# EAGLE library part 87758-1416 (library con-molex-models)
14 Pin - 2mm Dual Row Single Wafer, Vertical T/H HDR Source: http://www.molex.com/pdm_docs/sd/877580616_sd.pdf
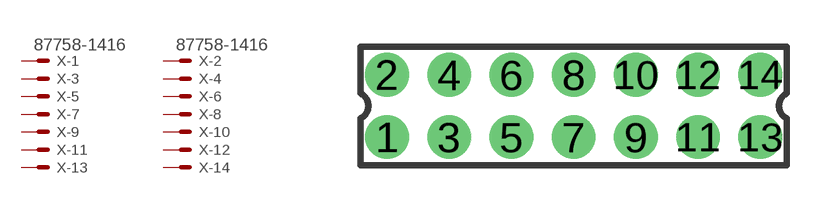
[diagram p210: symbol with the pads of 87758-1416; footprint 87758-1416]

Designator prefix X; gates -1=MV -2=MV -3=M -4=M -5=M -6=M -7=M -8=M -9=M -10=M -11=M -12=M -13=M -14=M

## 87758-1416 (MF: MOLEX; MPN: 87758-1416; OC_FARNELL: 7472358; OC_NEWARK: 59J1562)  [87758-1416]
1  -1:S  pas
2  -2:S  pas
3  -3:S  pas
4  -4:S  pas
5  -5:S  pas
6  -6:S  pas
7  -7:S  pas
8  -8:S  pas
9  -9:S  pas
10  -10:S  pas
11  -11:S  pas
12  -12:S  pas
13  -13:S  pas
14  -14:S  pas

## Footprint 87758-1416 (pad centres in mm)
2.00mm Pitch Milli-Grid™ Header, Through Hole, Vertical, 14 Circuits, 0.38µm Gold (Au) Selective Plating, Pocket Tray Packaging, Lead-Free Datasheet <http://www.molex.com/pdm_docs/sd/877581416_sd.pdf>
drill 0.9 pad 1.27: 1 -6,-1; 2 -6,1; 3 -4,-1; 4 -4,1; 5 -2,-1; 6 -2,1; 7 0,-1; 8 0,1; 9 2,-1; 10 2,1; 11 4,-1; 12 4,1; 13 6,-1; 14 6,1